# EAGLE library part EA_DOGXL240-7 (library ea_v66)
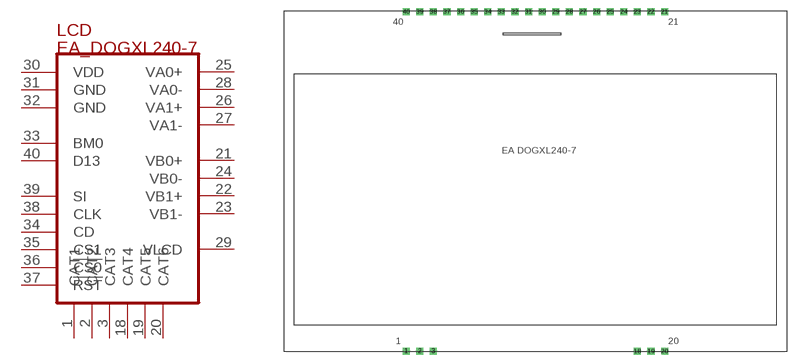
[diagram p9: symbol with the pads of EA_DOGXL240-7; footprint EA_DOGXL240-7]

Designator prefix LCD

## EA_DOGXL240-7  [EA_DOGXL240-7]
1  CAT1  in
2  CAT2  in
3  CAT3  in
18  CAT4  in
19  CAT5  in
20  CAT6  in
21  VB0+  pas
22  VB1+  pas
23  VB1-  pas
24  VB0-  pas
25  VA0+  pas
26  VA1+  pas
27  VA1-  pas
28  VA0-  pas
29  VLCD  pas
30  VDD  pwr
31  GND  pwr
32  GND  pwr
33  BM0  in
34  CD  in
35  CS1  in
36  !CS0!  in
37  !RST!  in
38  CLK  in
39  SI  in
40  D13  in

## Footprint EA_DOGXL240-7 (pad centres in mm)
drill 0.813 square: 1 0,0; 2 2.54,0; 3 5.08,0; 18 43.18,0; 19 45.72,0; 20 48.26,0; 21 48.26,63.5; 22 45.72,63.5; 23 43.18,63.5; 24 40.64,63.5; 25 38.1,63.5; 26 35.56,63.5; 27 33.02,63.5; 28 30.48,63.5; 29 27.94,63.5; 30 25.4,63.5; 31 22.86,63.5; 32 20.32,63.5; 33 17.78,63.5; 34 15.24,63.5; 35 12.7,63.5; 36 10.16,63.5; 37 7.62,63.5; 38 5.08,63.5; 39 2.54,63.5; 40 0,63.5